# EAGLE library part EPG.0B.307.HLNS (library lplemo)
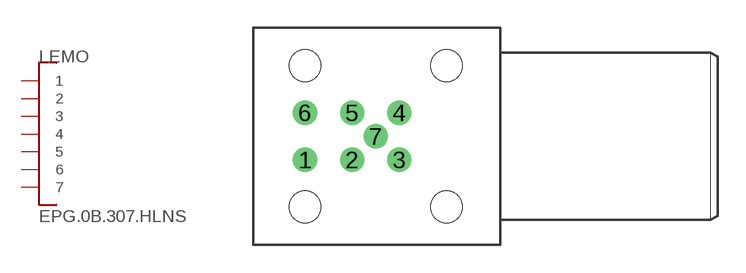
[diagram p21: symbol with the pads of P19-EPG-EXG-0B.307S; footprint P19-EPG-EXG-0B.307S]

Designator prefix LEMO

## EPG.0B.307.HLNS  [P19-EPG-EXG-0B.307S]
1  1
2  2
3  3
4  4
5  5
6  6
7  7

## Footprint P19-EPG-EXG-0B.307S (pad centres in mm)
drill 0.8 round: 1 -7.62,-1.27; 2 -5.08,-1.27; 3 -2.54,-1.27; 4 -2.54,1.27; 5 -5.08,1.27; 6 -7.62,1.27; 7 -3.81,0
hole 1.7 at -7.62,-3.81
hole 1.7 at 0,-3.81
hole 1.7 at 0,3.81
hole 1.7 at -7.62,3.81